# Altium integrated library U2S_HVPP.IntLib: 6 symbols
Pins are listed as number, name and electrical type; pins without a type are passive.

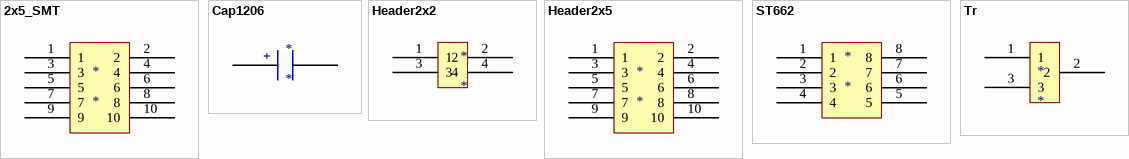
[diagram p0: symbols 2x5_SMT to Tr]

## 2x5_SMT
designator *
footprint SH10
pins: 1, 2, 3, 4, 5, 6, 7, 8, 9, 10

## Cap1206
designator *
footprint V1206
pins: 1, 1
text: +

## Header2x2
designator *
footprint H2x2
pins: 1, 2, 3, 4

## Header2x5
designator *
footprint H2x5
pins: 1, 2, 3, 4, 5, 6, 7, 8, 9, 10

## ST662
designator *
footprint SO8
pins: 1, 2, 3, 4, 5, 6, 7, 8

## Tr
designator *
footprint SOT23
pins: 1, 2, 3